# Altium schematic symbol library TNPW060387K6BEEA.SchLib: 2 symbols
Pins are listed as number, name and electrical type; pins without a type are passive.

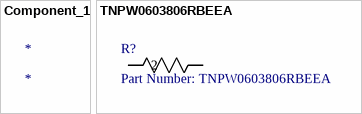
[diagram p0: symbols Component_1 to TNPW0603806RBEEA]

## Component_1
designator *

## TNPW0603806RBEEA
designator R?, comment Part Number: TNPW0603806RBEEA
No Description Available; Vendor: Vishay; Built_By: EMA_UL_Team; Manufacturer_Part_Number: TNPW0603806RBEEA; Copyright: Copyright (C) 2018 Accelerated Designs. All rights reserved; RefDes: RefDes; Type: DEV; Value: Value
footprint RC0603N
pins: 1, 2